# EAGLE library part USB (library ModernDevicebak2)
USB Connectors USBMINIB - Surface Mount Female Mini-B USB Connector 4UConnector: 06564 By microbuilder.eu Thru-hole RA Female Mini-B USB Connector 4UConnector: 18732 By ladyada.net
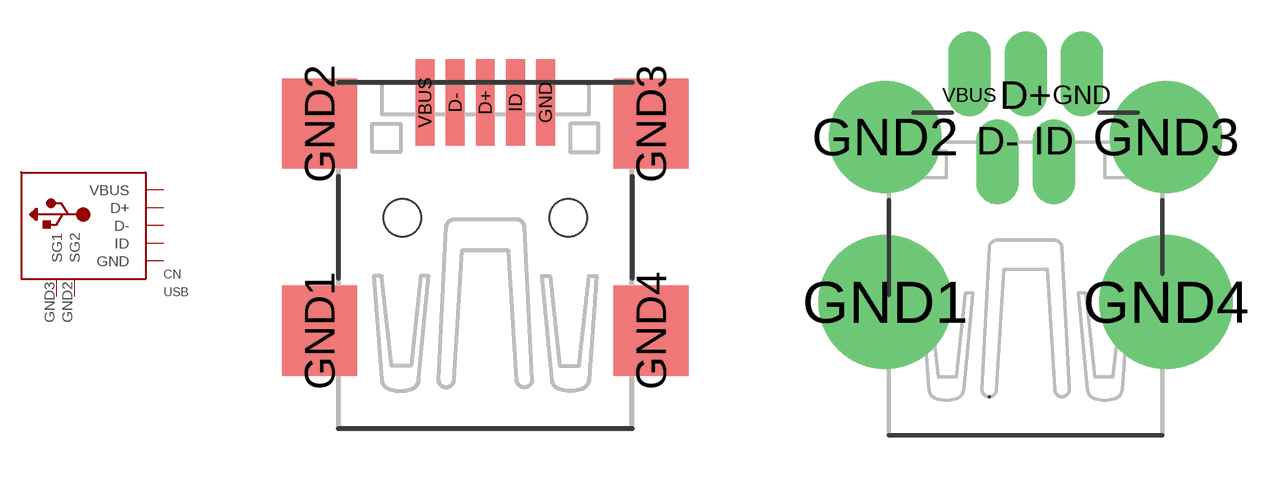
[diagram p0: symbol with the pads of USB-MINIB; footprints USB-MINIB, USB-MINIB-THM]

Designator prefix CN

## USBMINIB  [USB-MINIB]
D+  D+
D-  D-
GND  GND  pwr
GND2  SG2
GND3  SG1
ID  ID
VBUS  VBUS  pwr

## USBTHM  [USB-MINIB-THM]
D+  D+
D-  D-
GND  GND  pwr
ID  ID
VBUS  VBUS  pwr

## USBMOLEX  [USB-MINIB-THM-MOLEX]
Pads as for USB-MINIB-THM

## Footprint USB-MINIB (pad centres in mm)
Surface Mount USB Mini-B Connector
smd 0.5 x 2.308: D+ 0,4.064; D- -0.8,4.064; GND 1.6,4.064; ID 0.8,4.064; VBUS -1.6,4.064
smd 2 x 2.4: GND1 -4.4,-2; GND2 -4.4,3.5; GND3 4.4,3.5; GND4 4.4,-2
hole 1 at -2.2,1
hole 1 at 2.2,1

## Footprint USB-MINIB-THM (pad centres in mm)
Mini USB 5-pin thru-mount connector 4Ucon #18732
drill 0.7 offset: D+ 0,9.8; D- -0.8,8.5; GND 1.6,9.8; ID 0.8,8.5; VBUS -1.6,9.8
drill 2 pad 3.81: GND1 -4,3.9; GND4 4,3.9
drill 2 pad 3.2: GND2 -4,8.6; GND3 4,8.6

## Footprint USB-MINIB-THM-MOLEX (pad centres in mm)
drill 0.7 offset: D+ 0,9.72; D- -0.8,8.42; GND 1.6,9.72; ID 0.8,8.42; VBUS -1.6,9.72
drill 2 pad 3.81: GND1 -3.65,4.57; GND4 3.65,4.57